# Altium footprint library SIM_CARD_6P.PcbLib: 1 footprints
Each footprint in its own frame and in the unit in brackets; x right, y up, seen from the top. Pads: shape width x height; smd on the part's side, far side on the other; paste and mask are expansions set on the pad; w line width, h text height; cw(c..) or ccw(c..) is an arc to the next point about the centre after c.
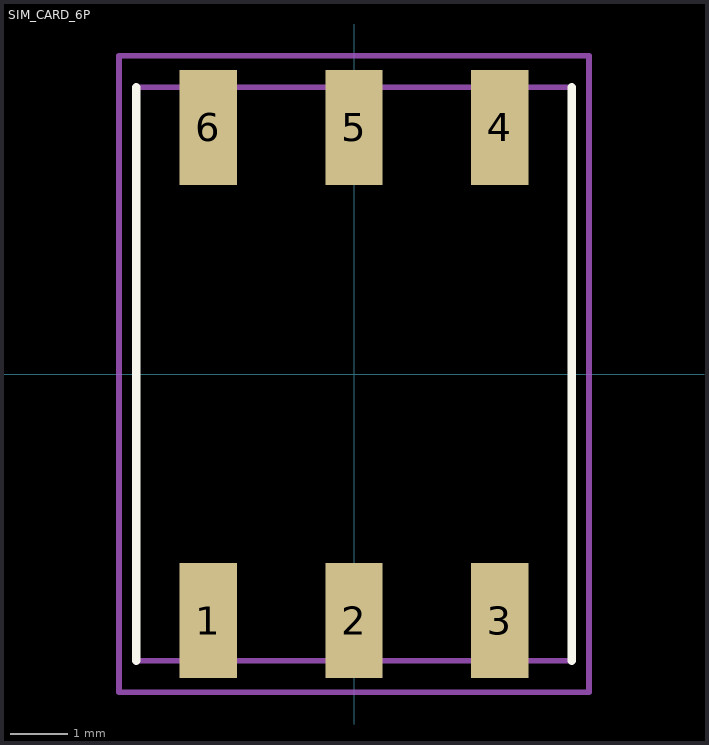
[diagram p0: the footprint, top view; thin cyan lines are the x and y axes]

## SIM_CARD_6P [mm]
height 1.2
pads (6):
  rect 1x2 smd: 1(-2.54,-4.3) 2(0,-4.3) 3(2.54,-4.3) 4(2.54,4.3) 5(0,4.3) 6(-2.54,4.3)
Top Overlay:
  lines w0.152: -3.8,-5 -3.8,5 ; 3.8,-5 3.8,5
Mechanical 13:
  lines w0.1: -3.8,-5 -3.8,5 3.8,5 3.8,-5 -3.8,-5
Mechanical 15:
  lines w0.1: -4.1,-5.55 4.1,-5.55 4.1,5.55 -4.1,5.55 -4.1,-5.55
3D body: height 1.78, standoff 0, extent -3.8,-5 3.8,5